# EAGLE library part 3PDTSWITCH (library lib)
3PDT Switch Pushbutton Switches High Actuation Foot Switch 10mm dia Actuator, 11.5mm Bushing, 1A 9VDC, 3 Pole, 3000gf, Alternate Action / Maintained, Solder Lug
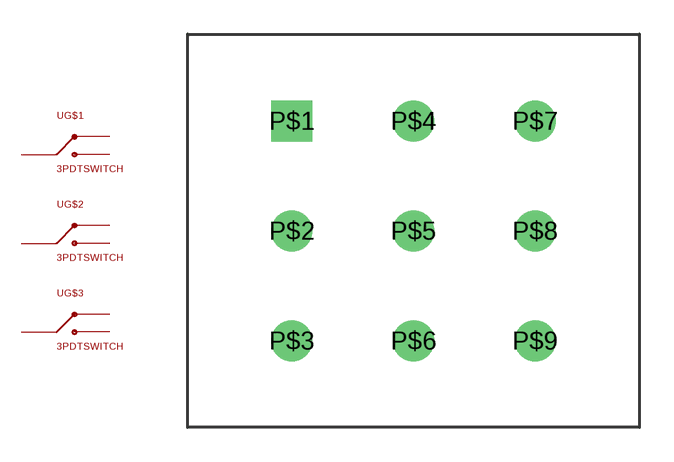
[diagram p4: symbol with the pads of FS57003PLT2B2M1QE; footprint FS57003PLT2B2M1QE]

Designator prefix U; gates G$1=BUTTON G$2=BUTTON G$3=BUTTON

## 3PDTSWITCH (LINK: https://www.mouser.se/ProductDetail/E-Switch/FS57003PLT2B2M1QE?qs=1mbolxNpo8d2%2F%2FtsGmxrBA%3D%3D; MOUSERNR: 612-FS573PLT2B2M1QE; MPN: FS57003PLT2B2M1QE; SUPPLIER: Mouser)  [FS57003PLT2B2M1QE]
P$1  G$1:1
P$2  G$1:2
P$3  G$1:3
P$4  G$2:1
P$5  G$2:2
P$6  G$2:3
P$7  G$3:1
P$8  G$3:2
P$9  G$3:3

## Footprint FS57003PLT2B2M1QE (pad centres in mm)
drill 1.2 square: P$1 -5.334,4.826
drill 1.2: P$2 -5.334,0; P$3 -5.334,-4.826; P$4 0,4.826; P$5 0,0; P$6 0,-4.826; P$7 5.334,4.826; P$8 5.334,0; P$9 5.334,-4.826